# Altium integrated library LM386N-4NOPB.IntLib: 1 symbol
Pins are listed as number, name and electrical type; pins without a type are passive.

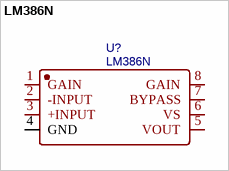
[diagram p0: symbol LM386N]

## LM386N
designator U?
BOM_Manufacturer: Texas Instruments; BOM_Manufacturer Part: LM386N-4/NOPB; Contributor: LCSC; BOM_Supplier: LCSC; BOM_Supplier Part: C194458; spicePre: U; spiceSymbolName: LM386N-4/NOPB
footprint DIP-8_L9.4-W6.4-P2.54-LS9.1-BL
pins: 1 GAIN, 2 -INPUT, 3 +INPUT, 4 GND, 5 VOUT, 6 VS, 7 BYPASS, 8 GAIN